# EAGLE library part MCP79411 (library anasoft)
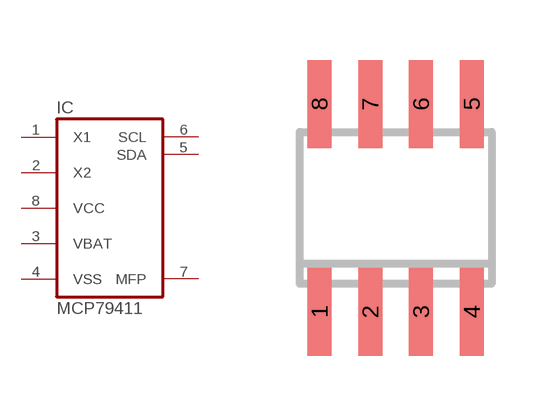
[diagram p7: symbol with the pads of SO-08; footprint SO-08]

Designator prefix IC

## MCP79411I-SN  [SO-08]
1  X1
2  X2
3  VBAT
4  VSS
5  SDA
6  SCL
7  MFP
8  VCC

## Footprint SO-08 (pad centres in mm)
Small Outline Narrow Plastic Gull Wing 150-mil body, package type SN
smd 0.6 x 2.2: 1 -1.905,-2.6; 2 -0.635,-2.6; 3 0.635,-2.6; 4 1.905,-2.6; 5 1.905,2.6; 6 0.635,2.6; 7 -0.635,2.6; 8 -1.905,2.6